# Altium footprint library 530470210.PcbLib: 1 footprints
Each footprint in its own frame and in the unit in brackets; x right, y up, seen from the top. Pads: shape width x height; smd on the part's side, far side on the other; paste and mask are expansions set on the pad; w line width, h text height; cw(c..) or ccw(c..) is an arc to the next point about the centre after c.
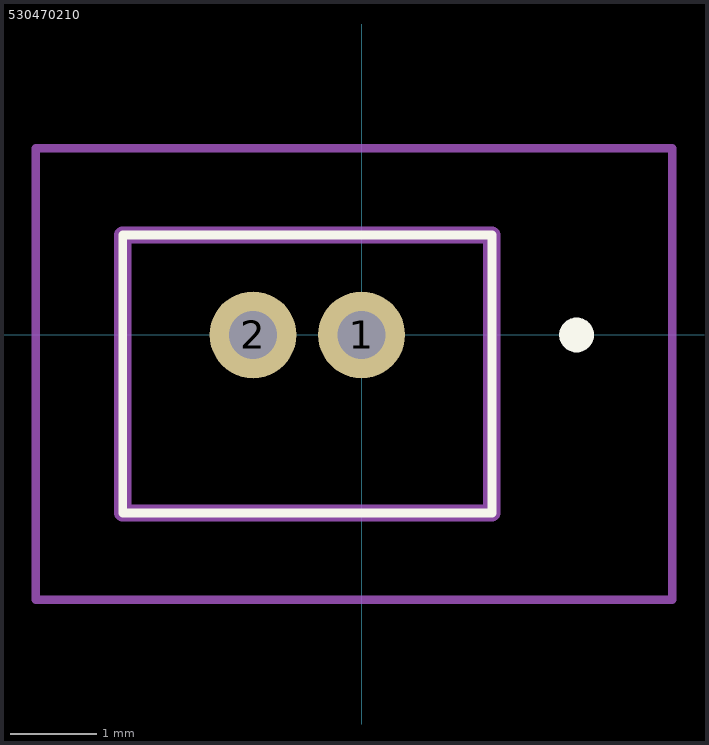
[diagram p0: the footprint, top view; thin cyan lines are the x and y axes]

## 530470210 [mm]
pads (2):
  round 1 hole 0.55: 1(0,0) 2(-1.25,0)
Top Overlay:
  lines w0.1: -2.75,-2.05 1.5,-2.05 1.5,1.15 -2.75,1.15 -2.75,-2.05
  lines w0.2: 2.375,0 2.375,0 ; 2.375,0 ccw(c2.475,0) 2.575,0 ; 2.375,0 cw(c2.475,0) 2.575,0 ; 2.575,0 2.575,0
Mechanical 15:
  lines w0.2: -2.75,-2.05 1.5,-2.05 1.5,1.15 -2.75,1.15 -2.75,-2.05
Mechanical 20:
  lines w0.1: -3.75,-3.05 3.575,-3.05 3.575,2.15 -3.75,2.15 -3.75,-3.05